# Altium footprint library 1013706200021LF.PcbLib: 1 footprints
Each footprint in its own frame and in the unit in brackets; x right, y up, seen from the top. Pads: shape width x height; smd on the part's side, far side on the other; paste and mask are expansions set on the pad; w line width, h text height; cw(c..) or ccw(c..) is an arc to the next point about the centre after c.
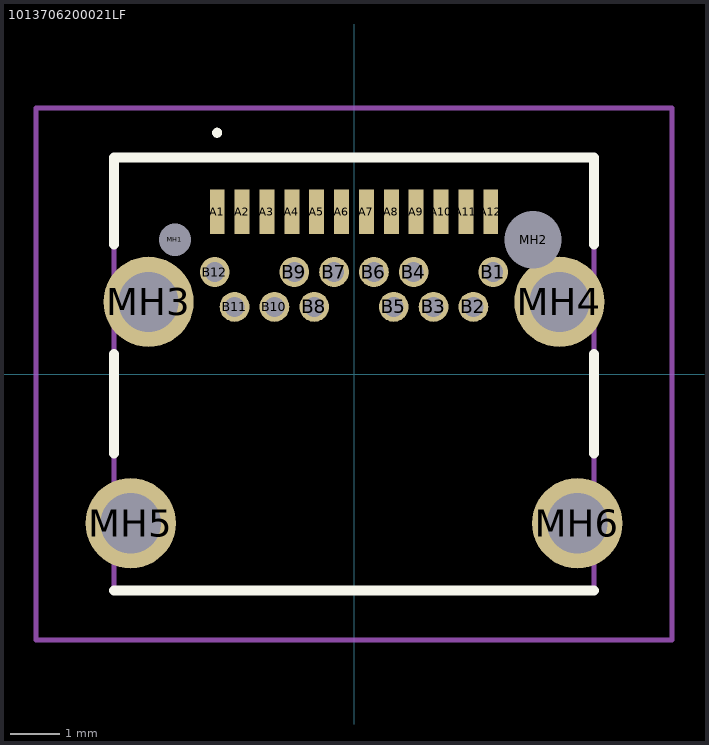
[diagram p0: the footprint, top view; thin cyan lines are the x and y axes]

## 1013706200021LF [mm]
pads (30):
  rect 0.3x0.9 smd: A1(-2.75,3.26) A2(-2.25,3.26) A3(-1.75,3.26) A4(-1.25,3.26) A5(-0.75,3.26) A6(-0.25,3.26) A7(0.25,3.26) A8(0.75,3.26) A9(1.25,3.26) A10(1.75,3.26) A11(2.25,3.26) A12(2.75,3.26)
  round 0.6 hole 0.4: B1(2.8,2.05) B2(2.4,1.35) B3(1.6,1.35) B4(1.2,2.05) B5(0.8,1.35) B6(0.4,2.05) B7(-0.4,2.05) B8(-0.8,1.35) B9(-1.2,2.05) B10(-1.6,1.35) B11(-2.4,1.35) B12(-2.8,2.05)
  round 0.325 hole 0.65 unplated: MH1(-3.6,2.7)
  round 0.575 hole 1.15 unplated: MH2(3.6,2.7)
  round 1.815 hole 1.21: MH3(-4.13,1.45) MH4(4.13,1.45) MH5(-4.49,-3) MH6(4.49,-3)
Top Overlay:
  lines w0.1: -2.75,4.799 cw(c-2.75,4.85) -2.75,4.901 ; -2.75,4.8 -2.75,4.8 ; -2.75,4.8 ccw(c-2.75,4.85) -2.75,4.9 ; -2.75,4.9 -2.75,4.9
  lines w0.2: -4.825,-4.35 4.825,-4.35 ; -4.825,-1.6 -4.825,0.4 ; -4.825,2.6 -4.825,4.35 4.825,4.35 4.825,2.6 ; 4.825,-1.6 4.825,0.4
Mechanical 15:
  lines w0.1: -4.825,-4.35 4.825,-4.35 4.825,4.35 -4.825,4.35 -4.825,-4.35
Mechanical 20:
  lines w0.1: -6.397,-5.35 6.397,-5.35 6.397,5.35 -6.397,5.35 -6.397,-5.35